# Altium footprint library testpad.PCBLIB: 42 footprints (part 2 of 3)
Each footprint in its own frame and in the unit in brackets; x right, y up, seen from the top. Pads: shape width x height; smd on the part's side, far side on the other; paste and mask are expansions set on the pad; w line width, h text height; cw(c..) or ccw(c..) is an arc to the next point about the centre after c.
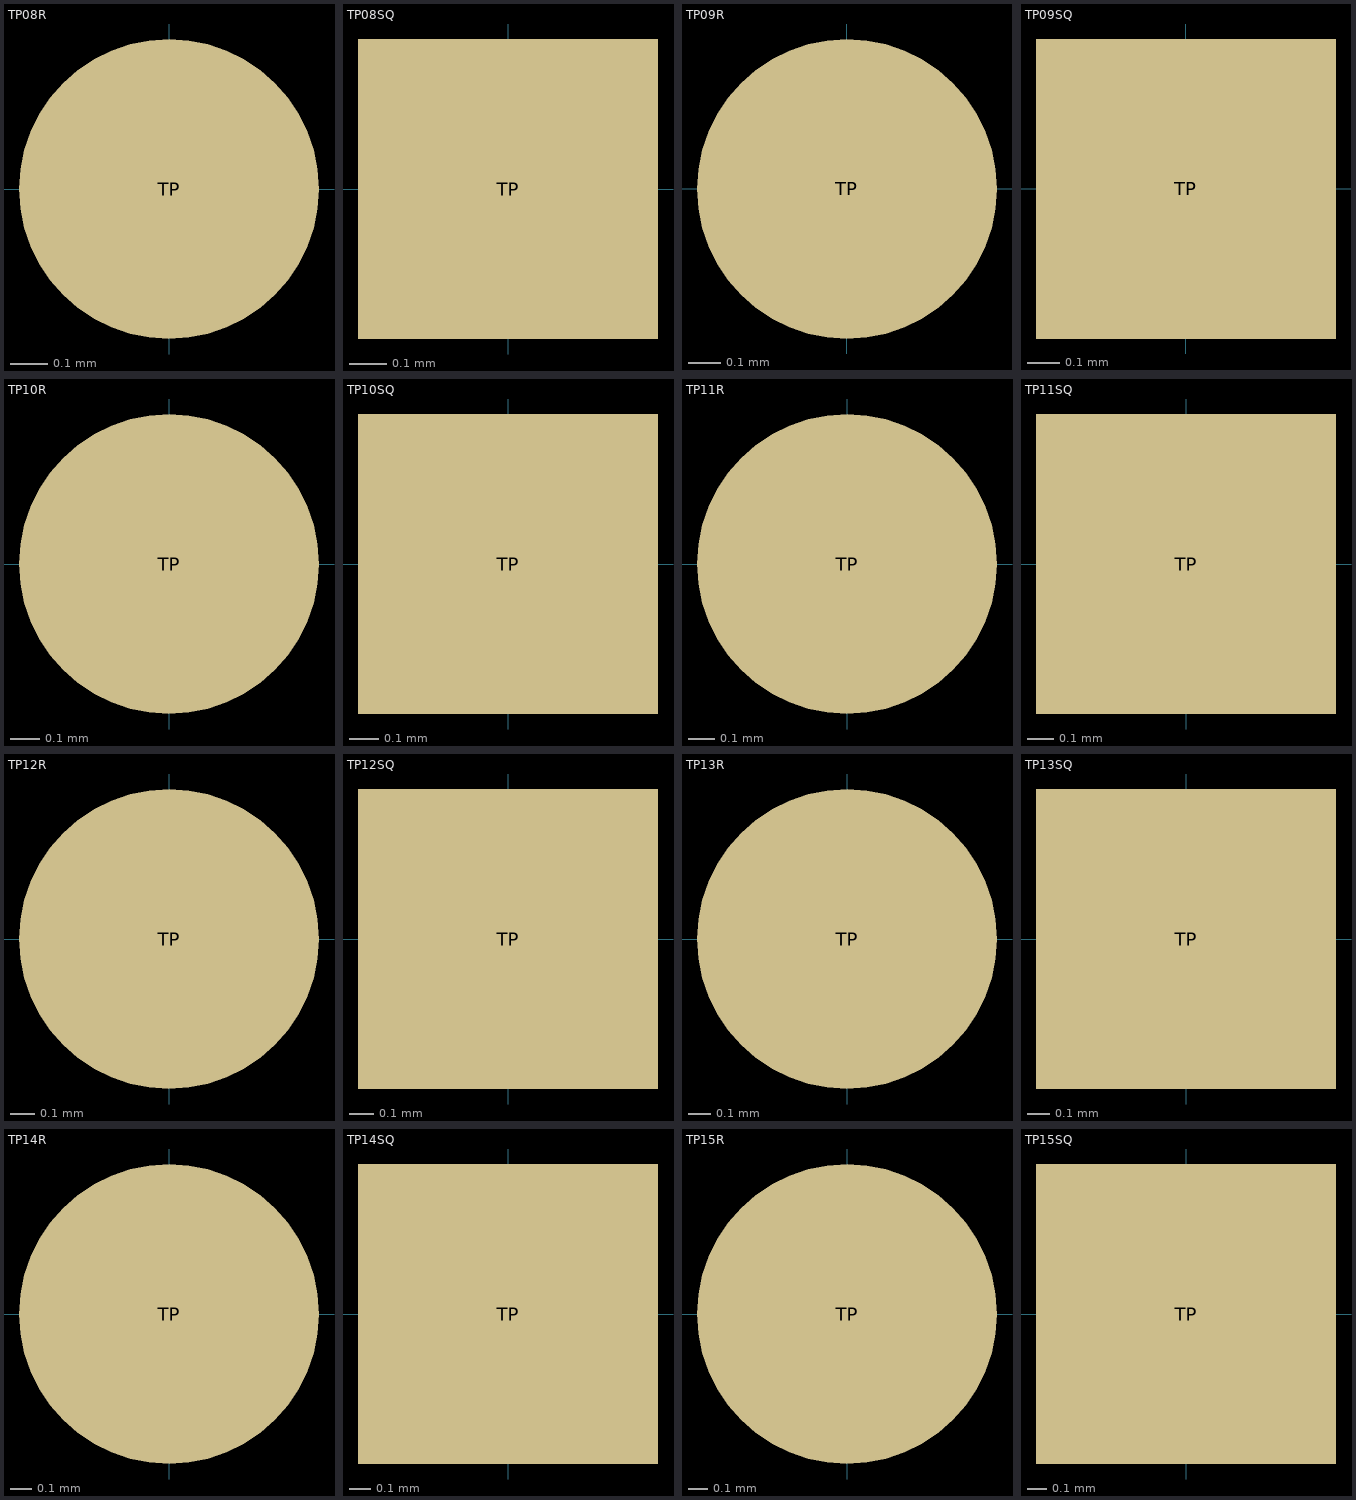
[diagram p1: the footprints below, top view; thin cyan lines are the x and y axes]

## TP08R [mil]
pads (1):
  rrect100% 32x32 smd: TP(0,0)
Mechanical 25:
  text ">TP_SIGNAL_NAME" at 0,-75 h62

## TP08SQ [mil]
pads (1):
  rect 32x32 smd: TP(0,0)
Mechanical 25:
  text ">TP_SIGNAL_NAME" at 0,-75 h62

## TP09R [mil]
pads (1):
  rrect100% 36x36 smd: TP(0,0)
Mechanical 25:
  text ">TP_SIGNAL_NAME" at 0,-75 h62

## TP09SQ [mil]
pads (1):
  rect 36x36 smd: TP(0,0)
Mechanical 25:
  text ">TP_SIGNAL_NAME" at 0,-75 h62

## TP10R [mil]
pads (1):
  rrect100% 40x40 smd: TP(0,0)
Mechanical 25:
  text ">TP_SIGNAL_NAME" at 0,-75 h62

## TP10SQ [mil]
pads (1):
  rect 40x40 smd: TP(0,0)
Mechanical 25:
  text ">TP_SIGNAL_NAME" at 0,-75 h62

## TP11R [mil]
pads (1):
  rrect100% 44x44 smd: TP(0,0)
Mechanical 25:
  text ">TP_SIGNAL_NAME" at 0,-75 h62

## TP11SQ [mil]
pads (1):
  rect 44x44 smd: TP(0,0)
Mechanical 25:
  text ">TP_SIGNAL_NAME" at 0,-100 h62

## TP12R [mil]
pads (1):
  rrect100% 48x48 smd: TP(0,0)
Mechanical 25:
  text ">TP_SIGNAL_NAME" at 0,-100 h62

## TP12SQ [mil]
pads (1):
  rect 48x48 smd: TP(0,0)
Mechanical 25:
  text ">TP_SIGNAL_NAME" at 0,-100 h62

## TP13R [mil]
pads (1):
  rrect100% 52x52 smd: TP(0,0)
Mechanical 25:
  text ">TP_SIGNAL_NAME" at 0,-100 h62

## TP13SQ [mil]
pads (1):
  rect 52x52 smd: TP(0,0)
Mechanical 25:
  text ">TP_SIGNAL_NAME" at 0,-100 h62

## TP14R [mil]
pads (1):
  rrect100% 56x56 smd: TP(0,0)
Mechanical 25:
  text ">TP_SIGNAL_NAME" at 0,-100 h62

## TP14SQ [mil]
pads (1):
  rect 56x56 smd: TP(0,0)
Mechanical 25:
  text ">TP_SIGNAL_NAME" at 0,-100 h62

## TP15R [mil]
pads (1):
  rrect100% 60x60 smd: TP(0,0)
Mechanical 25:
  text ">TP_SIGNAL_NAME" at 0,-100 h62

## TP15SQ [mil]
pads (1):
  rect 60x60 smd: TP(0,0)
Mechanical 25:
  text ">TP_SIGNAL_NAME" at 0,-100 h62